# Altium footprint library 571-0500.PcbLib: 1 footprints
Each footprint in its own frame and in the unit in brackets; x right, y up, seen from the top. Pads: shape width x height; smd on the part's side, far side on the other; paste and mask are expansions set on the pad; w line width, h text height; cw(c..) or ccw(c..) is an arc to the next point about the centre after c.
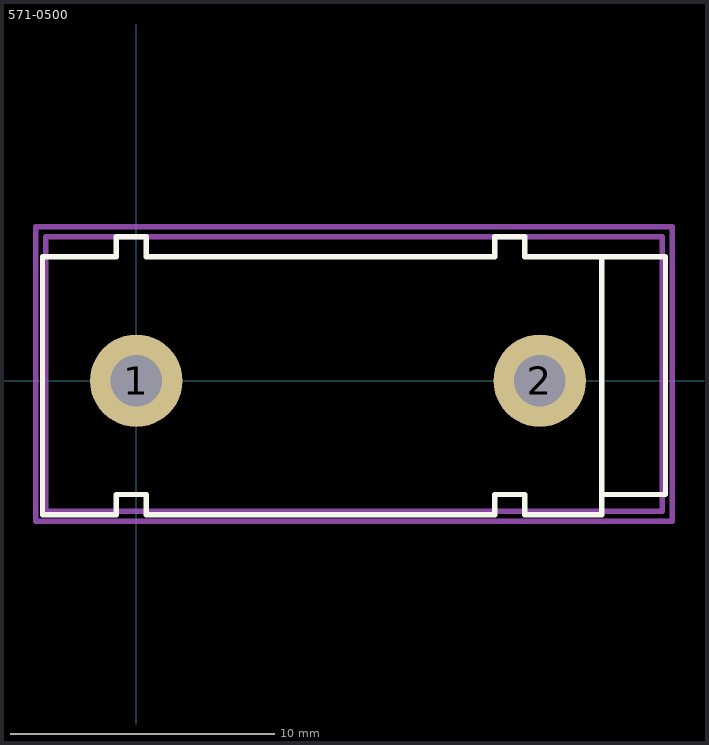
[diagram p0: the footprint, top view; thin cyan lines are the x and y axes]

## 571-0500 [mm]
pads (2):
  round 3.5 hole 1.94 mask+0.05: 1(0,0) 2(15.3,0)
Top Overlay:
  lines w0.2: 17.653,-4.318 20.066,-4.318 20.066,4.699 17.653,4.699 ; 17.653,4.699 14.732,4.699 14.732,5.461 13.589,5.461 13.589,4.699 0.381,4.699 0.381,5.461 -0.762,5.461 -0.762,4.699 -3.556,4.699 -3.556,-5.08 -0.762,-5.08 -0.762,-4.318 0.381,-4.318 0.381,-5.08 13.589,-5.08 13.589,-4.318 14.732,-4.318 14.732,-5.08 17.653,-5.08 17.653,4.699
Top Assembly:
  lines w0.2: -3.429,-4.953 19.939,-4.953 19.939,5.461 -3.429,5.461 -3.429,-4.953
Top Courtyard:
  lines w0.2: -3.81,-5.334 20.32,-5.334 20.32,5.842 -3.81,5.842 -3.81,-5.334
3D body "deltron-571-0500-4mm-90deg-single-socket-data.STEP": height 12.4, standoff -5.5, extent -3.43,-4.953 19.94,5.397